# Altium footprint library Switch.PcbLib: 23 footprints (part 2 of 2)
Each footprint in its own frame and in the unit in brackets; x right, y up, seen from the top. Pads: shape width x height; smd on the part's side, far side on the other; paste and mask are expansions set on the pad; w line width, h text height; cw(c..) or ccw(c..) is an arc to the next point about the centre after c.
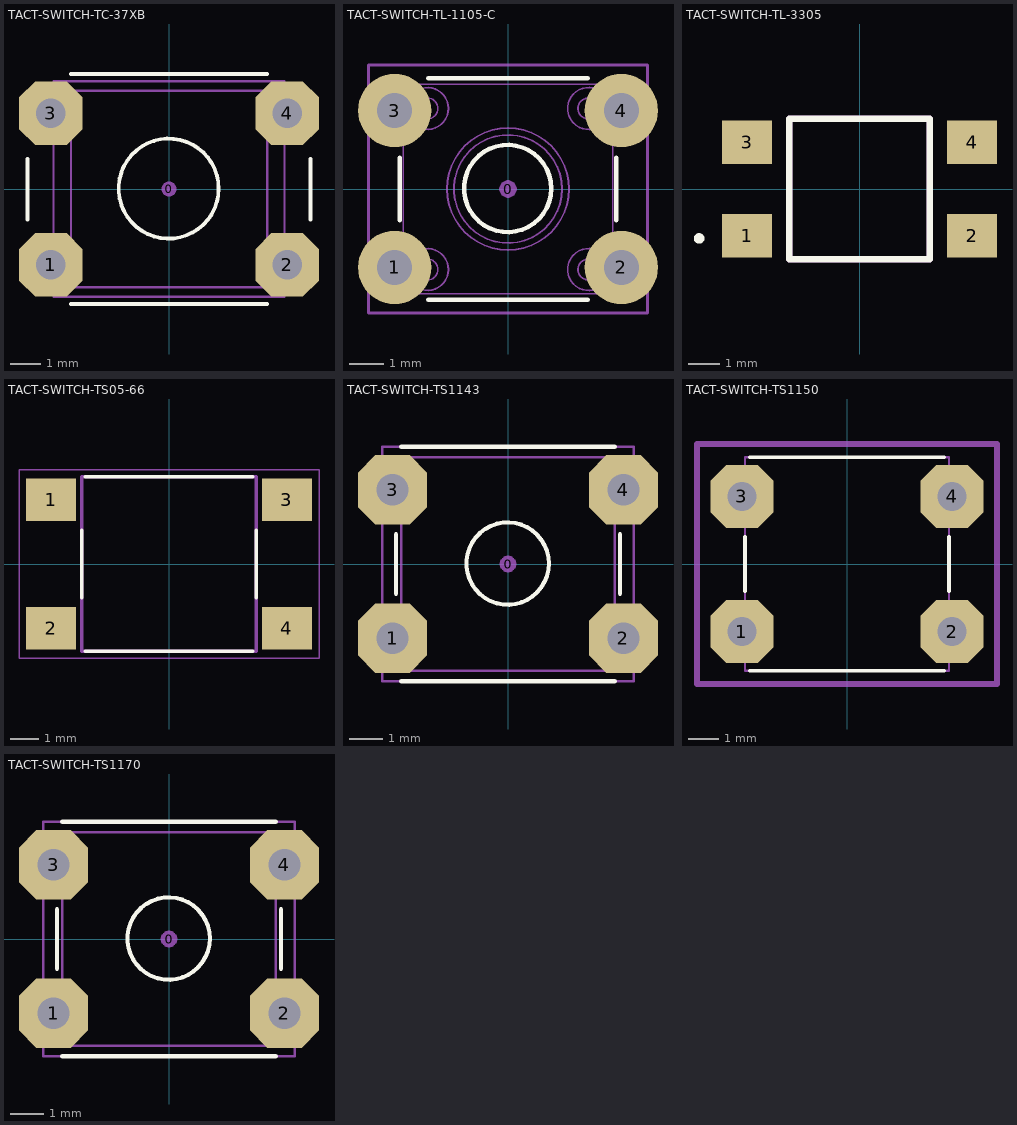
[diagram p1: the footprints below, top view; thin cyan lines are the x and y axes]

## TACT-SWITCH-TC-37XB [mm] "Wealth Metal sealed TH tact switch"
height 5
pads (5):
  round 0.508 on Mech14: 0(0,0)
  oct 2.1x2.1 hole 0.965: 1(-3.9,-2.5) 2(3.9,-2.5) 3(-3.9,2.5) 4(3.9,2.5)
Top Overlay:
  circle w0.127: c-0.011,0.014 r1.65
  lines w0.127: -4.67,-1 -4.67,1 ; -3.239,-3.791 3.24,-3.791 ; -3.232,3.794 3.24,3.794 ; 4.67,-1 4.67,1
Top Component Outline:
  circle w0.076: c-0.011,0.014 r1.65
  lines w0.076: -3.232,-3.237 -3.232,3.24 3.24,3.24 3.24,-3.237 -3.232,-3.237
Bottom Component Outline:
  lines w0.076: -3.81,-3.556 3.81,-3.556 3.81,3.556 -3.81,3.556 -3.81,-3.556
3D body "TC-37XB.stp": height 5, standoff -3.9, extent -4.456,-3.6 4.456,3.6

## TACT-SWITCH-TL-1105-C [mm] "E-Switch TL1105 series tact switch 8.0mm stem height"
height 8
pads (5):
  round 0.508 on Mech14: 0(0,0)
  round 2.1 hole 1: 1(-3.25,-2.25) 2(3.25,-2.25) 3(-3.25,2.25) 4(3.25,2.25)
Top Overlay:
  circle w0.127: c-0.011,0.014 r1.25
  lines w0.127: -3.1,-0.9 -3.1,0.9 ; -2.286,-3.175 2.286,-3.175 ; -2.286,3.175 2.286,3.175 ; 3.1,-0.9 3.1,0.9
Top Component Outline:
  circle w0.05: c-2.309,-2.309 r0.6
  circle w0.05: c2.309,-2.309 r0.6
  circle w0.05: c-2.309,2.309 r0.6
  circle w0.05: c2.309,2.309 r0.6
  circle w0.05: c2.307,-2.308 r0.3
  circle w0.05: c-2.31,-2.308 r0.3
  circle w0.05: c2.307,2.309 r0.3
  circle w0.05: c-2.31,2.309 r0.3
  circle w0.05: c0,0 r1.75
  circle w0.05: c0,0 r1.55
  lines w0.05: -3.886,-2.65 -3.886,-1.85 ; -3.886,1.85 -3.886,2.65 ; -3.3,-2.65 -3.3,-1.85 ; -3.3,1.85 -3.3,2.65 ; -3.15,-2.65 -3.15,-1.85 ; -3.15,1.85 -3.15,2.65 ; -3,-2.65 -3.95,-2.65 -3.95,-1.85 -3,-1.85 ; -3,1.85 -3.95,1.85 -3.95,2.65 -3,2.65 ; -2.561,-2.853 ccw(c-2.309,-2.309) -2.538,-2.863 ; -2.561,1.764 ccw(c-2.309,2.309) -2.538,1.754 ; 2.056,-2.853 ccw(c2.309,-2.309) 2.079,-2.863 ; 2.056,1.764 ccw(c2.309,2.309) 2.079,1.754 ; 3,-2.65 3.95,-2.65 3.95,-1.85 3,-1.85 ; 3,1.85 3.95,1.85 3.95,2.65 3,2.65 ; 3.15,-2.65 3.15,-1.85 ; 3.15,1.85 3.15,2.65 ; 3.3,-2.65 3.3,-1.85 ; 3.3,1.85 3.3,2.65 ; 3.886,-2.65 3.886,-1.85 ; 3.886,1.85 3.886,2.65 ; -3,-3 3,-3 3,3 -3,3 -3,-3
Bottom Component Outline:
  lines w0.076: -4,-3.556 4,-3.556 4,3.556 -4,3.556 -4,-3.556
3D body "TACT_SWITCH_TL-1105-C.STEP": height 8, standoff -3.5, extent -3.95,-3 3.95,3

## TACT-SWITCH-TL-3305 [mm]
pads (4):
  rect 1.6x1.4 smd: 1(-3.6,-1.5) 2(3.6,-1.5) 3(-3.6,1.5) 4(3.6,1.5)
Top Overlay:
  circle w0.2: c-5.138,-1.583 r0.069
  lines w0.2: -2.25,-2.25 2.25,-2.25 2.25,2.25 -2.25,2.25 -2.25,-2.25
Top Component Outline:
  lines w0.2: -2.25,-2.25 2.25,-2.25 2.25,2.25 -2.25,2.25 -2.25,-2.25
3D body "TL3305AF260QG.stp": height 3.9, standoff 0, extent -3.75,-2.25 3.75,2.25

## TACT-SWITCH-TS05-66 [mm] "TS05-66-43-BK-260-SMT-67"
pads (4):
  rect 1.75x1.5 smd: 1(-4.125,2.25) 2(-4.125,-2.25) 3(4.125,2.25) 4(4.125,-2.25)
Top Overlay:
  lines w0.127: -3.05,-1.18 -3.05,1.18 ; -2.93,-3.05 2.93,-3.05 ; -2.93,3.05 2.93,3.05 ; 3.05,-1.18 3.05,1.18
Top Component Outline:
  lines w0.127: -3.05,-3.05 3.05,-3.05 3.05,3.05 -3.05,3.05 -3.05,-3.05
Top Courtyard:
  lines w0.05: -5.25,-3.3 5.25,-3.3 5.25,3.3 -5.25,3.3 -5.25,-3.3
3D body "CUI-TS05-66-43.step": height 4.3, standoff -0.1, extent -4.25,-3.05 4.25,3.05

## TACT-SWITCH-TS1143 [mm] "Bondtact sealed TH tact switch"
height 4.318
pads (5):
  round 0.508 on Mech14: 0(0,0)
  oct 2.1x2.1 hole 0.965: 1(-3.5,-2.25) 2(3.5,-2.25) 3(-3.5,2.25) 4(3.5,2.25)
Top Overlay:
  circle w0.127: c-0.011,0.014 r1.25
  lines w0.127: -3.4,-0.9 -3.4,0.9 ; -3.239,-3.556 3.24,-3.556 ; -3.236,3.556 3.236,3.556 ; 3.4,-0.9 3.4,0.9
Top Component Outline:
  circle w0.076: c-0.011,0.014 r1.25
  lines w0.076: -3.232,-3.237 3.24,-3.237 3.24,3.24 -3.232,3.24 -3.232,-3.237
Bottom Component Outline:
  lines w0.076: -3.81,-3.556 -3.81,3.556 3.81,3.556 3.81,-3.556 -3.81,-3.556
3D body "TS-1143-WP.stp": height 4.3, standoff -3.5, extent -4.134,-3.25 4.134,3.25

## TACT-SWITCH-TS1150 [mm] "Bondtact sealed TH tact switch"
height 5.18
pads (4):
  oct 2.1x2.1 hole 0.965: 1(-3.5,-2.25) 2(3.5,-2.25) 3(-3.5,2.25) 4(3.5,2.25)
Top Overlay:
  lines w0.127: -3.4,-0.9 -3.4,0.9 ; -3.239,-3.556 3.24,-3.556 ; -3.236,3.556 3.236,3.556 ; 3.4,-0.9 3.4,0.9
Top Component Outline:
  lines w0.076: -3.4,-3.556 3.4,-3.556 3.4,3.556 -3.4,3.556 -3.4,-3.556
Top Courtyard:
  lines w0.2: -5,-4 5,-4 5,4 -5,4 -5,-4
3D body "TS-1150-WP.stp": height 5, standoff -3.5, extent -4.133,-3.25 4.133,3.25

## TACT-SWITCH-TS1170 [mm] "Bondtact sealed TH tact switch"
height 6.985
pads (5):
  round 0.508 on Mech14: 0(0,0)
  oct 2.1x2.1 hole 0.965: 1(-3.5,-2.25) 2(3.5,-2.25) 3(-3.5,2.25) 4(3.5,2.25)
Top Overlay:
  circle w0.127: c-0.011,0.014 r1.25
  lines w0.127: -3.4,-0.9 -3.4,0.9 ; -3.239,-3.556 3.24,-3.556 ; -3.236,3.556 3.236,3.556 ; 3.4,-0.9 3.4,0.9
Top Component Outline:
  circle w0.076: c-0.011,0.014 r1.25
  lines w0.076: -3.232,-3.237 3.24,-3.237 3.24,3.24 -3.232,3.24 -3.232,-3.237
Bottom Component Outline:
  lines w0.076: -3.81,-3.556 -3.81,3.556 3.81,3.556 3.81,-3.556 -3.81,-3.556
3D body "TS-1170-WP.stp": height 7, standoff -3.5, extent -4.134,-3.25 4.134,3.25